# Altium schematic symbol library SSM2603CPZ-REEL7.SchLib: 1 symbol
Pins are listed as number, name and electrical type; pins without a type are passive.

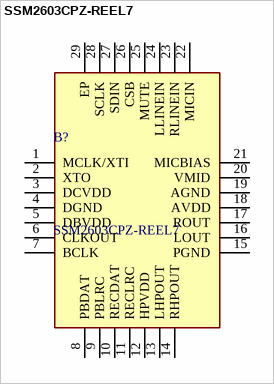
[diagram p0: symbol SSM2603CPZ-REEL7]

## SSM2603CPZ-REEL7
designator B?
Low Power Audio Codec; Manufacturer_Name: Analog Devices; Geometry.Height: 0.8mm; Manufacturer_Part_Number: SSM2603CPZ-REEL7; Mouser Part Number: 584-SSM2603CPZ-R7; Mouser Price/Stock: https://www.mouser.co.uk/ProductDetail/Analog-Devices/SSM2603CPZ-REEL7?qs=WIvQP4zGangXbW6vE18nlQ%3D%3D; Arrow Part Number: SSM2603CPZ-REEL7; Arrow Price/Stock: https://www.arrow.com/en/products/ssm2603cpz-reel7/analog-devices; Datasheet Link: https://componentsearchengine.com/Datasheets/2/SSM2603CPZ-REEL7.pdf
footprint QFN50P500X500X80-29N-D
pins: 1 MCLK/XTI, 2 XTO, 3 DCVDD, 4 DGND, 5 DBVDD, 6 CLKOUT, 7 BCLK, 8 PBDAT, 9 PBLRC, 10 RECDAT, 11 RECLRC, 12 HPVDD, 13 LHPOUT, 14 RHPOUT, 15 PGND, 16 LOUT, 17 ROUT, 18 AVDD, 19 AGND, 20 VMID, 21 MICBIAS, 22 MICIN, 23 RLINEIN, 24 LLINEIN, 25 MUTE, 26 CSB, 27 SDIN, 28 SCLK, 29 EP